# EAGLE library part ATMEGA328P-AU (library ATMEGA328P-AU)
MICROCHIP - ATMEGA328P-AU. - MICROCONTROLLER MCU, 8 BIT, ATMEGA, 20MHZ, TQFP-32 Source: Datasheet <https://componentsearchengine.com/Datasheets/2/ATMEGA328P-AU.pdf>
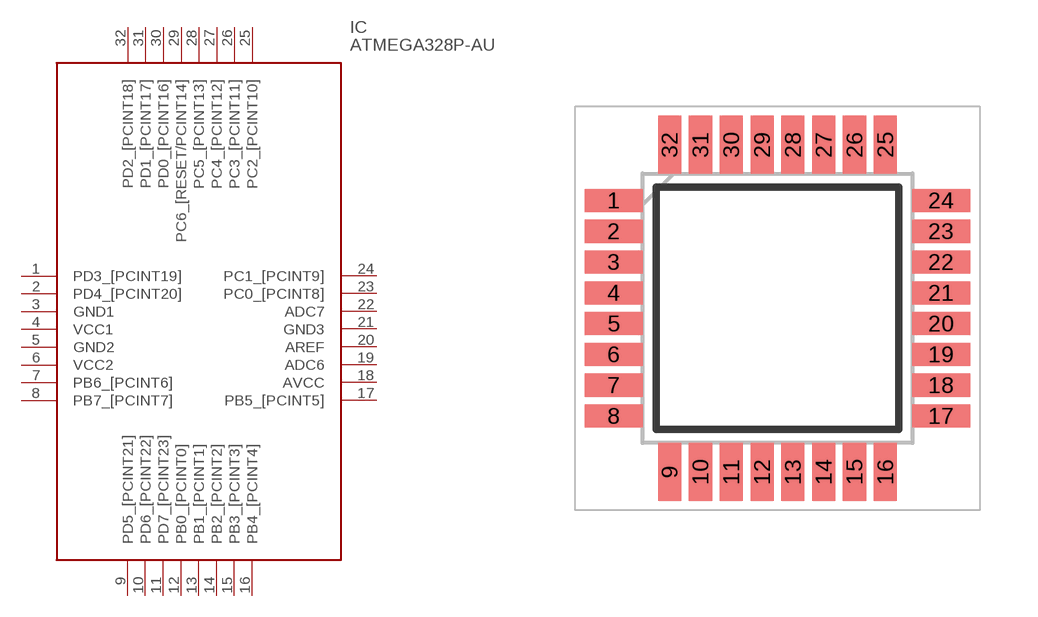
[diagram p0: symbol with the pads of QFP80P900X900X120-32N; footprint QFP80P900X900X120-32N]

Designator prefix IC

## ATMEGA328P-AU (Arrow_Part_Number: ATMEGA328P-AU; Arrow_Price/Stock: https://www.arrow.com/en/products/atmega328p-au/microchip-technology; Description: MICROCHIP - ATMEGA328P-AU. - MICROCONTROLLER MCU, 8 BIT, ATMEGA, 20MHZ, TQFP-32; Height: 1.2mm; Manufacturer_Name: Microchip; Manufacturer_Part_Number: ATMEGA328P-AU; RS_Part_Number: 1310271; RS_Price/Stock: http://uk.rs-online.com/web/p/products/1310271)  [QFP80P900X900X120-32N]
1  PD3_[PCINT19]
2  PD4_[PCINT20]
3  GND1  pwr
4  VCC1  pwr
5  GND2  pwr
6  VCC2  pwr
7  PB6_[PCINT6]
8  PB7_[PCINT7]
9  PD5_[PCINT21]
10  PD6_[PCINT22]
11  PD7_[PCINT23]
12  PB0_[PCINT0]
13  PB1_[PCINT1]
14  PB2_[PCINT2]
15  PB3_[PCINT3]
16  PB4_[PCINT4]
17  PB5_[PCINT5]
18  AVCC  pwr
19  ADC6
20  AREF
21  GND3  pwr
22  ADC7
23  PC0_[PCINT8]
24  PC1_[PCINT9]
25  PC2_[PCINT10]
26  PC3_[PCINT11]
27  PC4_[PCINT12]
28  PC5_[PCINT13]
29  PC6_[RESET/PCINT14]
30  PD0_[PCINT16]
31  PD1_[PCINT17]
32  PD2_[PCINT18]

## Footprint QFP80P900X900X120-32N (pad centres in mm)
32A
smd 1.5 x 0.6: 1 -4.25,2.8; 2 -4.25,2; 3 -4.25,1.2; 4 -4.25,0.4; 5 -4.25,-0.4; 6 -4.25,-1.2; 7 -4.25,-2; 8 -4.25,-2.8; 17 4.25,-2.8; 18 4.25,-2; 19 4.25,-1.2; 20 4.25,-0.4; 21 4.25,0.4; 22 4.25,1.2; 23 4.25,2; 24 4.25,2.8
smd 0.6 x 1.5: 9 -2.8,-4.25; 10 -2,-4.25; 11 -1.2,-4.25; 12 -0.4,-4.25; 13 0.4,-4.25; 14 1.2,-4.25; 15 2,-4.25; 16 2.8,-4.25; 25 2.8,4.25; 26 2,4.25; 27 1.2,4.25; 28 0.4,4.25; 29 -0.4,4.25; 30 -1.2,4.25; 31 -2,4.25; 32 -2.8,4.25